# Altium footprint library std.PcbLib: 28 footprints (part 1 of 2)
Each footprint in its own frame and in the unit in brackets; x right, y up, seen from the top. Pads: shape width x height; smd on the part's side, far side on the other; paste and mask are expansions set on the pad; w line width, h text height; cw(c..) or ccw(c..) is an arc to the next point about the centre after c.
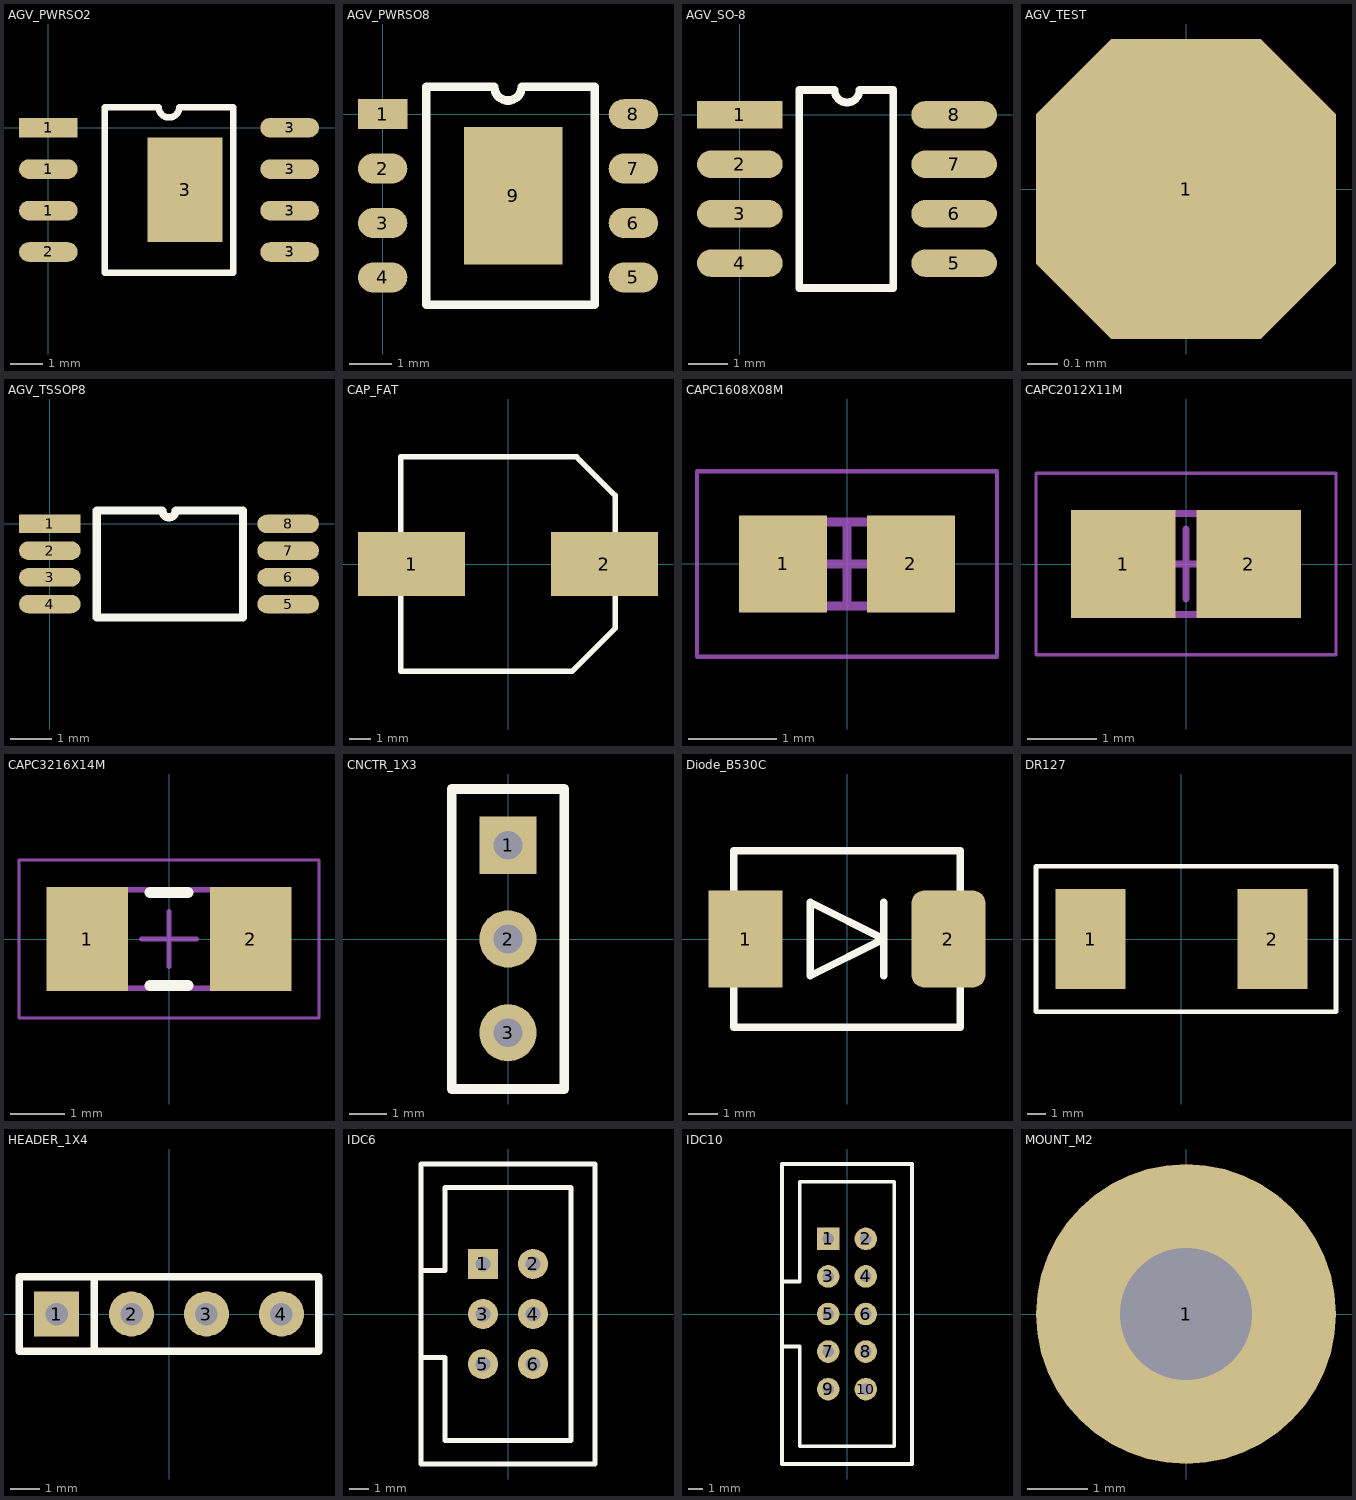
[diagram p0: the footprints below, top view; thin cyan lines are the x and y axes]

## AGV_PWRSO2 [mm]
pads (9):
  oval 1.8x0.6 smd: 1(0,-2.54) 1(0,-1.27) 2(0,-3.81) 3(7.4,-3.81) 3(7.4,-2.54) 3(7.4,-1.27) 3(7.4,0)
  rect 1.8x0.6 smd: 1(0,0)
  rect 2.3x3.2 smd: 3(4.191,-1.905)
Top Overlay:
  lines w0.2: 1.735,-4.445 5.665,-4.445 5.665,0.635 4.018,0.635 cw(c3.7,0.635) 3.383,0.635 1.735,0.635 1.735,-4.445

## AGV_PWRSO8 [mm]
pads (9):
  rect 1.15x0.7 smd: 1(0,0)
  oval 1.15x0.7 smd: 2(0,-1.27) 3(0,-2.54) 4(0,-3.81) 5(5.85,-3.81) 6(5.85,-2.54) 7(5.85,-1.27) 8(5.85,0)
  rect 2.3x3.2 smd: 9(3.048,-1.905)
Top Overlay:
  lines w0.2: 1.016,-4.445 1.016,0.635 2.608,0.635 ccw(c2.925,0.635) 3.243,0.635 4.953,0.635 4.953,-4.445 1.016,-4.445

## AGV_SO-8 [mm]
pads (8):
  rect 2.2x0.7 smd: 1(0,0)
  oval 2.2x0.7 smd: 2(0,-1.27) 3(0,-2.54) 4(0,-3.81) 5(5.5,-3.81) 6(5.5,-2.54) 7(5.5,-1.27) 8(5.5,0)
Top Overlay:
  lines w0.2: 1.524,-4.445 1.524,0.635 2.432,0.635 ccw(c2.75,0.635) 3.067,0.635 3.937,0.635 3.937,-4.445 1.524,-4.445

## AGV_TEST [mm]
pads (1):
  oct 1x1 smd: 1(0,0)
Top Layer:
  text "'.Designator'" at -2.857,0.953 h0.5

## AGV_TSSOP8 [mm]
pads (8):
  rect 1.5x0.45 smd: 1(0,0)
  oval 1.5x0.45 smd: 2(0,-0.65) 3(0,-1.3) 4(0,-1.95) 5(5.8,-1.95) 6(5.8,-1.3) 7(5.8,-0.65) 8(5.8,0)
Top Overlay:
  lines w0.2: 1.143,-2.275 4.215,-2.275 4.699,-2.275 4.699,0.325 4.215,0.325 3.062,0.325 cw(c2.9,0.325) 2.738,0.325 1.143,0.325 1.143,-2.275

## CAP_FAT [mm] "Feta kondingar"
height 10
pads (2):
  rect 5x3 smd: 1(-4.5,0) 2(4.5,0)
Top Overlay:
  lines w0.254: -5,-5 3,-5 5,-3 5,3.2 3.2,5 -5,5 -5,-0.4 -5,-5

## CAPC1608X08M [mm] "Chip Capacitor, 2-Leads, Body 1,60x0,80mm, IPC Low Density"
height 0.85
pads (2):
  rect 1x1.1 smd: 1(-0.725,0) 2(0.725,0)
Mechanical 13:
  lines w0.1: -0.875,-0.475 -0.875,0.475 0.875,0.475 0.875,-0.475 -0.875,-0.475
Mechanical 15:
  lines w0.05: -1.7,-1.05 -1.7,1.05 1.7,1.05 1.7,-1.05 -1.7,-1.05
  lines w0.1: -0.475,0 0.475,0 ; 0,-0.475 0,0.475
3D body: height 0.85, standoff 0, extent -0.525,-0.475 0.525,0.475
3D body: height 0.85, standoff 0, extent -0.875,-0.475 -0.525,0.475
3D body: height 0.85, standoff 0, extent 0.525,-0.475 0.875,0.475

## CAPC2012X11M [mm] "Chip Capacitor, 2-Leads, Body 2,00x1,25mm, IPC Low Density"
height 1.1
pads (2):
  rect 1.5x1.55 smd: 1(-0.9,0) 2(0.9,0)
Mechanical 13:
  lines w0.1: -1.1,-0.725 1.1,-0.725 1.1,0.725 -1.1,0.725 -1.1,-0.725
Mechanical 15:
  lines w0.05: -2.15,-1.3 2.15,-1.3 2.15,1.3 -2.15,1.3 -2.15,-1.3
  lines w0.1: -0.5,0 0.5,0 ; 0,-0.5 0,0.5
3D body: height 1.1, standoff 0, extent 0.6,-0.725 1.1,0.725
3D body: height 1.1, standoff 0, extent -1.1,-0.725 -0.6,0.725
3D body: height 1.1, standoff 0, extent -0.6,-0.725 0.6,0.725

## CAPC3216X14M [mm] "Chip Capacitor, 2-Leads, Body 3,20x1,60mm, IPC Low Density"
height 1.35
pads (2):
  rect 1.5x1.9 smd: 1(-1.5,0) 2(1.5,0)
Top Overlay:
  lines w0.2: -0.35,-0.85 0.35,-0.85 ; -0.35,0.85 0.35,0.85
Mechanical 13:
  lines w0.1: -1.7,-0.9 -1.7,0.9 1.7,0.9 1.7,-0.9 -1.7,-0.9
Mechanical 15:
  lines w0.05: -2.75,-1.45 -2.75,1.45 2.75,1.45 2.75,-1.45 -2.75,-1.45
  lines w0.1: -0.5,0 0.5,0 ; 0,-0.5 0,0.5
3D body: height 1.35, standoff 0, extent -1.2,-0.9 1.2,0.9
3D body: height 1.35, standoff 0, extent -1.7,-0.9 -1.2,0.9
3D body: height 1.35, standoff 0, extent 1.2,-0.9 1.7,0.9

## CNCTR_1X3 [mil] "3-pin connector"
height 590.55
pads (3):
  rect 60x60 hole 30: 1(0,98.43)
  round 60 hole 30: 2(0,0) 3(0,-98.43)
Top Overlay:
  lines w10: -59.06,-157.48 -59.06,157.48 59.06,157.48 59.06,-157.48 -59.06,-157.48

## Diode_B530C [mm] "Schottky barrier rectifier"
height 2
pads (2):
  rect 2.524x3.3 smd: 1(-3.45,0)
  rrect35% 2.524x3.3 smd: 2(3.45,0)
Top Overlay:
  lines w0.254: 1.25,-1.25 1.25,1.25 ; -3.85,-3 3.85,-3 3.85,3 -3.85,3 -3.85,-3 ; -1.25,-1.25 1.25,0 -1.25,1.25 -1.25,-1.25

## DR127 [mm] "spole"
height 8
pads (2):
  rect 3.85x5.5 smd: 1(-5,0) 2(5,0)
Top Overlay:
  lines w0.254: -8,-4 8,-4 8.5,-4 8.5,4 -8,4 -8,-4

## HEADER_1X4 [mil]
pads (4):
  rect 60x60 hole 30: 1(-150,0)
  round 60 hole 30: 2(-50,0) 3(50,0) 4(150,0)
Top Overlay:
  lines w10: -100,-50 -100,50 ; -200,-50 -200,50 200,50 200,-50 -200,-50

## IDC6 [mil]
pads (6):
  rect 60x60 hole 30: 1(-50,100)
  round 60 hole 30: 2(50,100) 3(-50,0) 4(50,0) 5(-50,-100) 6(50,-100)
Top Overlay:
  lines w10: -173.23,-86.61 -173.23,86.61 ; -173.23,-86.61 -125.98,-86.61 -125.98,-251.97 125.98,-251.97 125.98,251.97 -125.98,251.97 -125.98,133.86 -125.98,86.61 -173.23,86.61 ; -173.23,-86.61 -173.23,-125.98 -173.23,-299.21 173.23,-299.21 173.23,0 173.23,299.21 0,299.21 -173.23,299.21 -173.23,86.61
3D body: height 358.27, standoff 0, extent -173.21,-299.19 173.21,299.19
3D body: height 78.74, standoff 0, extent -173.21,-251.95 125.96,251.95
3D body: height 354.33, standoff -122.05, extent 40,-110 60,-90
3D body: height 354.33, standoff -122.05, extent -60,-110 -40,-90
3D body: height 354.33, standoff -122.05, extent -60,-10 -40,10
3D body: height 354.33, standoff -122.05, extent 40,-10 60,10
3D body: height 354.33, standoff -122.05, extent 40,90 60,110
3D body: height 354.33, standoff -122.05, extent -60,90 -40,110

## IDC10 [mil]
pads (10):
  rect 60x60 hole 30: 1(-50,200)
  round 60 hole 30: 2(50,200) 3(-50,100) 4(50,100) 5(-50,0) 6(50,0) 7(-50,-100) 8(50,-100) 9(-50,-200) 10(50,-200)
Top Overlay:
  lines w10: -173.23,-186.61 -173.23,186.61 ; -173.23,-399.21 173.23,-399.21 173.23,0 173.23,399.21 0,399.21 -173.23,399.21 -173.23,86.61 -125.98,86.61 -125.98,233.86 -125.98,351.97 125.98,351.97 125.98,-351.97 -125.98,-351.97 -125.98,-86.61 -173.23,-86.61 -173.23,-225.98 -173.23,-399.21
3D body: height 354.33, standoff -122.05, extent -59.84,190.16 -40.16,209.84
3D body: height 354.33, standoff -122.05, extent 40.16,190.16 59.84,209.84
3D body: height 354.33, standoff -122.05, extent 40.16,90.16 59.84,109.84
3D body: height 354.33, standoff -122.05, extent -59.84,90.16 -40.16,109.84
3D body: height 354.33, standoff -122.05, extent -59.84,-9.84 -40.16,9.85
3D body: height 354.33, standoff -122.05, extent 40.16,-9.84 59.84,9.85
3D body: height 354.33, standoff -122.05, extent -59.84,-109.84 -40.16,-90.16
3D body: height 354.33, standoff -122.05, extent 40.16,-109.84 59.84,-90.16
3D body: height 354.33, standoff -122.05, extent -69.69,-209.84 -50,-190.16
3D body: height 354.33, standoff -122.05, extent 40.16,-209.84 59.84,-190.16
3D body: height 78.74, standoff 0, extent -173.21,-351.95 125.96,351.95
3D body: height 358.27, standoff 0, extent -173.21,-399.19 173.21,399.19

## MOUNT_M2 [mm]
pads (1):
  round 5 hole 2.2: 1(0,0)
3D body: height 2, standoff 0, extent -2.25,-2.249 2.25,2.25
3D body: height 0, standoff -8, extent -1,-0.999 1,0.999